# Altium schematic symbol library SI7005-B-FMR.SchLib: 1 symbol
Pins are listed as number, name and electrical type; pins without a type are passive.

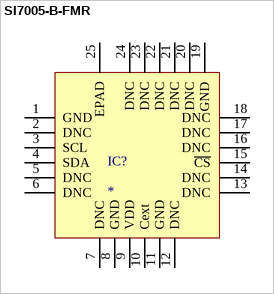
[diagram p0: symbol SI7005-B-FMR]

## SI7005-B-FMR
designator IC?
pins: 1 GND, 2 DNC, 3 SCL, 4 SDA, 5 DNC, 6 DNC, 7 DNC, 8 GND, 9 VDD, 10 Cext, 11 GND, 12 DNC, 13 DNC, 14 DNC, 15 ~{CS}, 16 DNC, 17 DNC, 18 DNC, 19 GND, 20 DNC, 21 DNC, 22 DNC, 23 DNC, 24 DNC, 25 EPAD
1 alternate drawing of the same symbol